# Altium integrated library MPU-6050.IntLib: 1 symbol
Pins are listed as number, name and electrical type; pins without a type are passive.

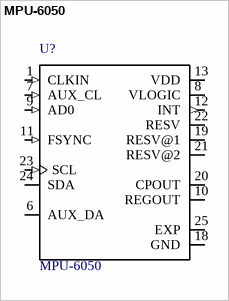
[diagram p0: symbol MPU-6050]

## MPU-6050
designator U?
IMU ACCEL/GYRO 3-AXIS I2C 24QFN; MF: TDK; Availability: Good; MP: MPU-6050; Package: QFN-24 InvenSense; Price: 5.56 USD; Value: *
footprint QFN50P400X400X95-25N
pins: 1 CLKIN (in), 6 AUX_DA (io), 7 AUX_CL (in), 8 VLOGIC (power), 9 AD0 (in), 10 REGOUT, 11 FSYNC (in), 12 INT (out), 13 VDD (power), 18 GND (power), 19 RESV@1, 20 CPOUT, 21 RESV@2, 22 RESV, 23 SCL (in), 24 SDA (io), 25 EXP (power)